# Altium schematic symbol library monitoring_board.SCHLIB: 14 symbols
Pins are listed as number, name and electrical type; pins without a type are passive.

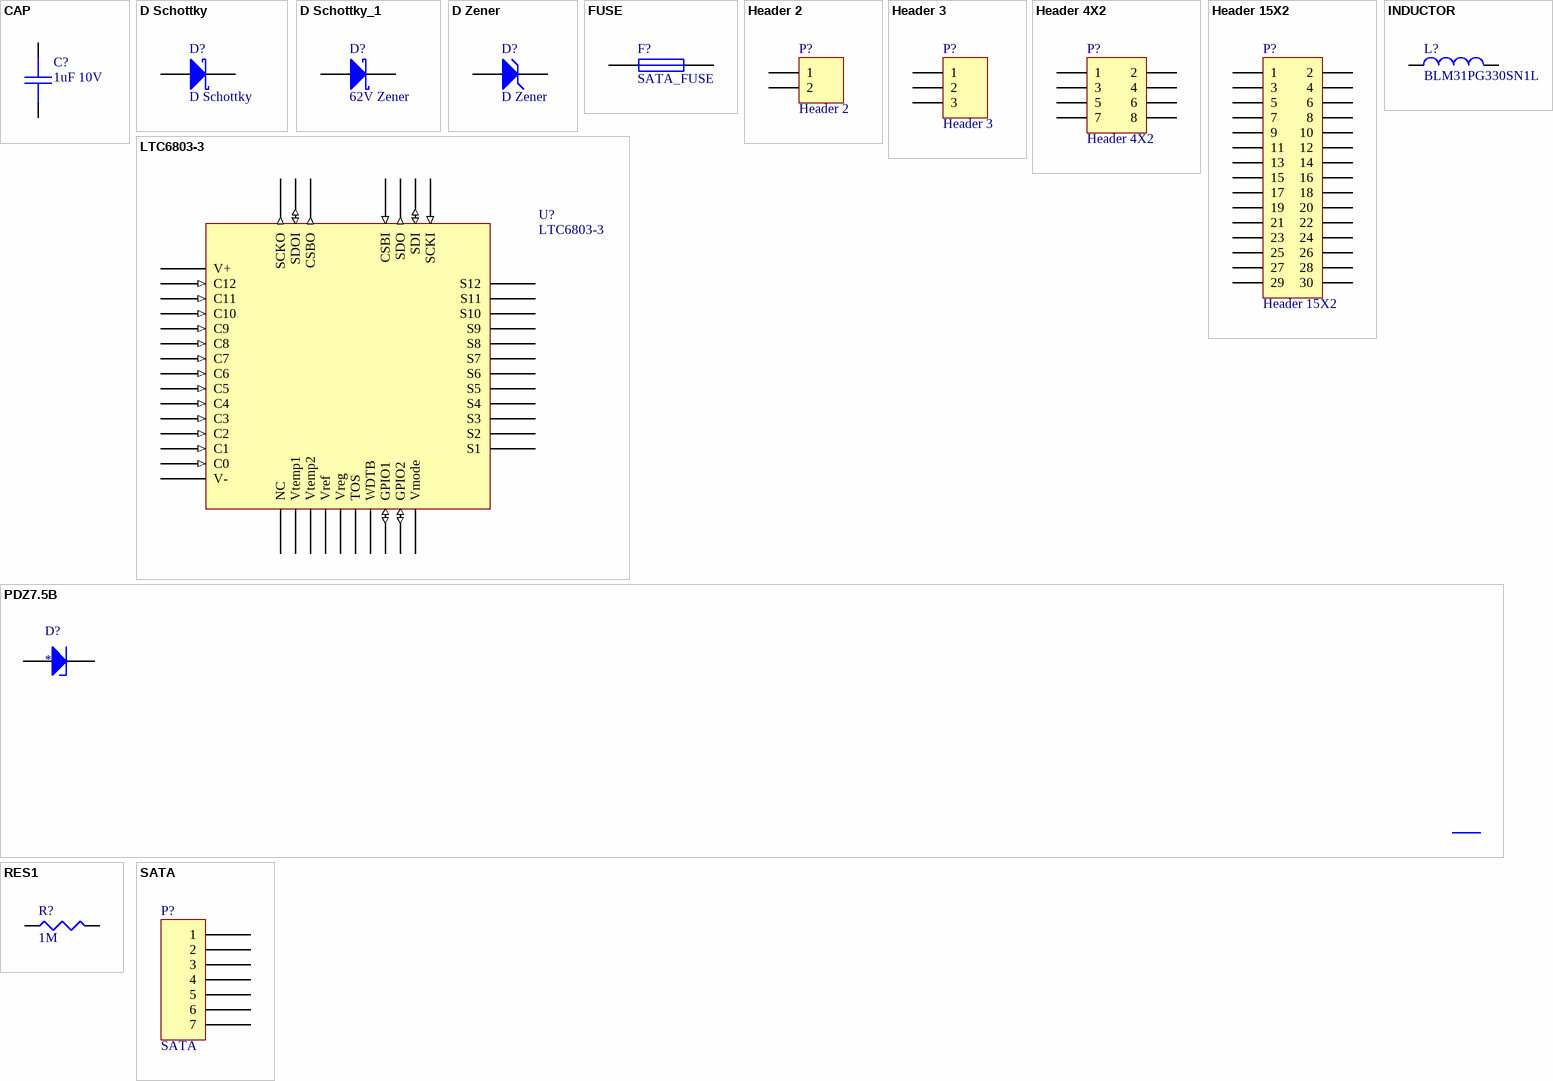
[diagram p0: symbols CAP to SATA]

## CAP
designator C?, comment 1uF 10V
Capacitor
footprint RAD0.1
footprint RAD0.2
footprint RAD0.3
footprint RAD0.4
footprint 0603
footprint 0805
footprint 1206
pins: 1, 2

## D Schottky
designator D?
Schottky Diode; Published: 8-Jun-2000; LatestRevisionDate: 17-Jul-2002; LatestRevisionNote: Re-released for DXP Platform.; PackageReference: SMB; Publisher: Altium Limited; PackageDescription: DO-214-AA/SMB; 2 C-Bend Leads; Body 5.3 x 3.6 mm, inc. leads (LxW); Code_JEDEC: DO-214-AA
footprint SMB (DO-214-AA/SMB; 2 C-Bend Leads; Body 5.3 x 3.6 mm, inc. leads (LxW))
simulation model SKYDIODE (Diode)
signal-integrity model D Schottky
pins: 1 A, 2 K

## D Schottky_1
designator D?, comment 62V Zener
SMBJ64CABCT-ND; Published: 8-Jun-2000; LatestRevisionDate: 17-Jul-2002; LatestRevisionNote: Re-released for DXP Platform.; PackageReference: SMB; Publisher: Altium Limited; PackageDescription: DO-214-AA/SMB; 2 C-Bend Leads; Body 5.3 x 3.6 mm, inc. leads (LxW); Code_JEDEC: DO-214-AA
footprint DO-214AA
pins: 1 A, 2 K

## D Zener
designator D?
Zener Diode; Published: 8-Jun-2000; LatestRevisionDate: 17-Jul-2002; LatestRevisionNote: Re-released for DXP Platform.; PackageReference: DIODE-0.7; Publisher: Altium Limited; PackageDescription: Diode, Thru-Hole; 2 Leads; 0.7 in Pin Spacing
footprint DIODE-0.7 (Diode, Thru-Hole; 2 Leads; 0.7 in Pin Spacing)
simulation model ZENER (Diode)
signal-integrity model D Zener
pins: 1 A, 2 K

## FUSE
designator F?, comment SATA_FUSE
Fuse
footprint RESC3225M_1210I (Chip Resistor, Body 3.2x2.5mm, IPC Low Density)
footprint FUSE1.5
pins: 1, 2

## Header 2
designator P?
Header, 2-Pin; LatestRevisionDate: 17-Jul-2002; LatestRevisionNote: Re-released for DXP Platform.; Publisher: Altium Limited
footprint HDR1X2 (Connector; Header; 2 Position)
signal-integrity model Connector
pins: 1, 2

## Header 3
designator P?
Header, 3-Pin; LatestRevisionDate: 17-Jul-2002; LatestRevisionNote: Re-released for DXP Platform.; Publisher: Altium Limited
footprint HDR1X3 (Connector; Header; 3 Position)
signal-integrity model Connector
pins: 1, 2, 3

## Header 4X2
designator P?
Header, 4-Pin, Dual row; LatestRevisionDate: 17-Jul-2002; LatestRevisionNote: Re-released for DXP Platform.; Publisher: Altium Limited
footprint HDR2X4 (Connector; Header; 4x2 Position)
signal-integrity model Connector
pins: 1, 2, 3, 4, 5, 6, 7, 8

## Header 15X2
designator P?
Header, 15-Pin, Dual row; LatestRevisionDate: 17-Jul-2002; LatestRevisionNote: Re-released for DXP Platform.; Publisher: Altium Limited
footprint HDR2X15 (Connector; Header; 15x2 Position)
signal-integrity model Connector
pins: 1, 2, 3, 4, 5, 6, 7, 8, 9, 10, 11, 12, 13, 14, 15, 16, 17, 18, 19, 20, 21, 22, 23, 24, 25, 26, 27, 28, 29, 30

## INDUCTOR
designator L?, comment BLM31PG330SN1L
Manufacturer: Generic Components; Class I: Passive; Class II: Inductor; Value: Ferrite; Published: 8-Jun-2000; Revision: July-2002: Re-released for DXP Platform.; Publisher: Altium Limited
footprint C1005-0402
simulation model INDUCTOR (Inductor)
signal-integrity model Inductor
footprint 1812
footprint 1206
pins: 1, 2

## LTC6803-3
designator U?
footprint SOP44
pins: 1 CSBO (out), 2 SDOI (io), 3 SCKO (out), 4 V+ (power), 5 C12 (in), 6 S12, 7 C11 (in), 8 S11, 9 C10 (in), 10 S10, 11 C9 (in), 12 S9, 13 C8 (in), 14 S8, 15 C7 (in), 16 S7, 17 C6 (in), 18 S6, 19 C5 (in), 20 S5, 21 C4 (in), 22 S4, 23 C3 (in), 24 S3, 25 C2 (in), 26 S2, 27 C1 (in), 28 S1, 29 C0 (in), 30 V- (power), 31 NC, 32 Vtemp1, 33 Vtemp2, 34 Vref, 35 Vreg, 36 TOS, 37 WDTB, 38 GPIO1 (io), 39 GPIO2 (io), 40 Vmode, 41 SCKI (in), 42 SDI (io), 43 SDO (out), 44 CSBI (in)

## PDZ7.5B
designator D?
Voltage regulator diode
pins: 1 A, 2 K

## RES1
designator R?, comment 1M
Resistor
footprint AXIAL-0.4
footprint AXIAL-0.3
footprint AXIAL-0.5
footprint AXIAL-0.6
footprint 0603
footprint 0805
footprint 1206
pins: 1, 2

## SATA
designator P?
footprint 47080-4005-SATA
pins: 1, 2, 3, 4, 5, 6, 7